# Altium schematic symbol library BAT-HLD-003-SMT.SchLib: 1 symbol
Pins are listed as number, name and electrical type; pins without a type are passive.

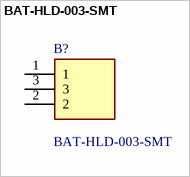
[diagram p0: symbol BAT-HLD-003-SMT]

## BAT-HLD-003-SMT
designator B?
Coin Cell Battery Holders Holder for 2016, 2020, 2025 and 2032 Batteries, Surface Mount, Bulk Packaging; Manufacturer_Name: Linx Technologies; Geometry.Height: 4.2mm; Mouser Part Number: 712-BAT-HLD-003-SMT; Mouser Price/Stock: https://www.mouser.co.uk/ProductDetail/Linx-Technologies/BAT-HLD-003-SMT?qs=TuK3vfAjtkVRZQIT6eTqjQ%3D%3D; Manufacturer_Part_Number: BAT-HLD-003-SMT; Datasheet Link: https://linxtechnologies.com/wp/wp-content/uploads/bat-hld-003-smt-ds.pdf
footprint BATHLD003SMT
pins: 1, 2, 3